# EAGLE library part KINGBRIGHT-PDA54-12XWA (library mmoretti)
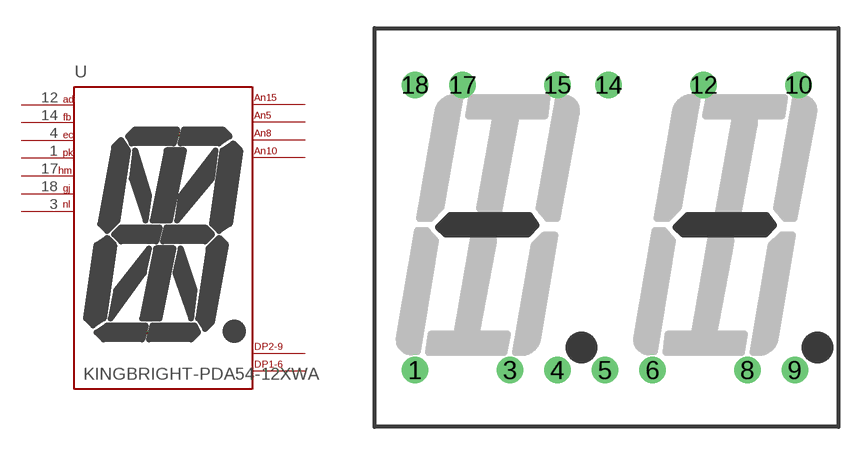
[diagram p4: symbol with the pads of KINGBRIGHT-PDA54-12XWA; footprint KINGBRIGHT-PDA54-12XWA]

Designator prefix -

## KINGBRIGHT-PDA54-12XWA  [KINGBRIGHT-PDA54-12XWA]
1  PK  pas
3  NL  pas
4  EC  pas
5  AN5  pas
6  DP1  pas
8  AN8  pas
9  DP2  pas
10  AN10  pas
12  AD  pas
14  FB  pas
15  AN15  pas
17  HM  pas
18  GJ  pas

## Footprint KINGBRIGHT-PDA54-12XWA (pad centres in mm)
drill 0.8 pad 1.422: 1 -10.26,-7.62; 3 -5.18,-7.62; 4 -2.64,-7.62; 5 -0.1,-7.62; 6 2.44,-7.62; 8 7.52,-7.62; 9 10.06,-7.62; 10 10.26,7.62; 12 5.18,7.62; 14 0.1,7.62; 15 -2.64,7.62; 17 -7.72,7.62; 18 -10.26,7.62